# EAGLE library part DUAL-DSUB9 (library crasbe)
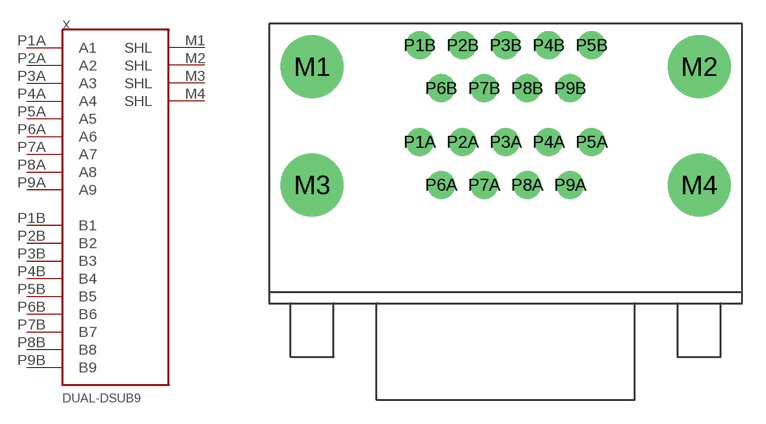
[diagram p23: symbol with the pads of DUAL-JOY; footprint DUAL-JOY]

Designator prefix X

## DUAL-DSUB9  [DUAL-JOY]
M1  SHL  pwr
M2  SHL  pwr
M3  SHL  pwr
M4  SHL  pwr
P1A  A1
P1B  B1
P2A  A2
P2B  B2
P3A  A3
P3B  B3
P4A  A4
P4B  B4
P5A  A5
P5B  B5
P6A  A6
P6B  B6
P7A  A7
P7B  B7
P8A  A8
P8B  B8
P9A  A9
P9B  B9

## Footprint DUAL-JOY (pad centres in mm)
drill 3.048: M1 -12.459,2.769; M2 12.459,2.769; M3 -12.459,-4.845; M4 12.459,-4.845
drill 1.194: P1A -5.537,-2.076; P1B -5.537,4.153; P2A -2.769,-2.076; P2B -2.769,4.153; P3A 0,-2.076; P3B 0,4.153; P4A 2.769,-2.076; P4B 2.769,4.153; P5A 5.537,-2.076; P5B 5.537,4.153; P6A -4.153,-4.845; P6B -4.153,1.384; P7A -1.384,-4.845; P7B -1.384,1.384; P8A 1.384,-4.845; P8B 1.384,1.384; P9A 4.153,-4.845; P9B 4.153,1.384